# EAGLE library part USBLC6-2 (library MSA_lib)
VERY LOW CAPACITANCE ESD PROTECTION 2 line Datasheet link <http://www.st.com/web/catalog/sense_power/FM114/CL1137/SC1489/PF93353>
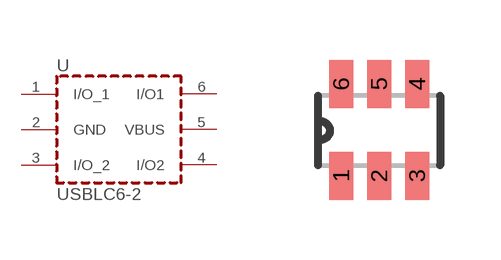
[diagram p29: symbol with the pads of SOT-23-6L; footprint SOT-23-6L]

Designator prefix U

## USBLC6-2SC6 (OC_FARNELL: 1269406)  [SOT-23-6L]
1  I/O_1
2  GND
3  I/O_2
4  I/O2
5  VBUS
6  I/O1

## Footprint SOT-23-6L (pad centres in mm)
smd 0.6 x 1.2: 1 -0.95,-2.3; 2 0,-2.3; 3 0.95,-2.3; 4 0.95,0; 5 0,0; 6 -0.95,0